# Altium footprint library ESP32.PcbLib: 23 footprints (part 1 of 2)
Each footprint in its own frame and in the unit in brackets; x right, y up, seen from the top. Pads: shape width x height; smd on the part's side, far side on the other; paste and mask are expansions set on the pad; w line width, h text height; cw(c..) or ccw(c..) is an arc to the next point about the centre after c.
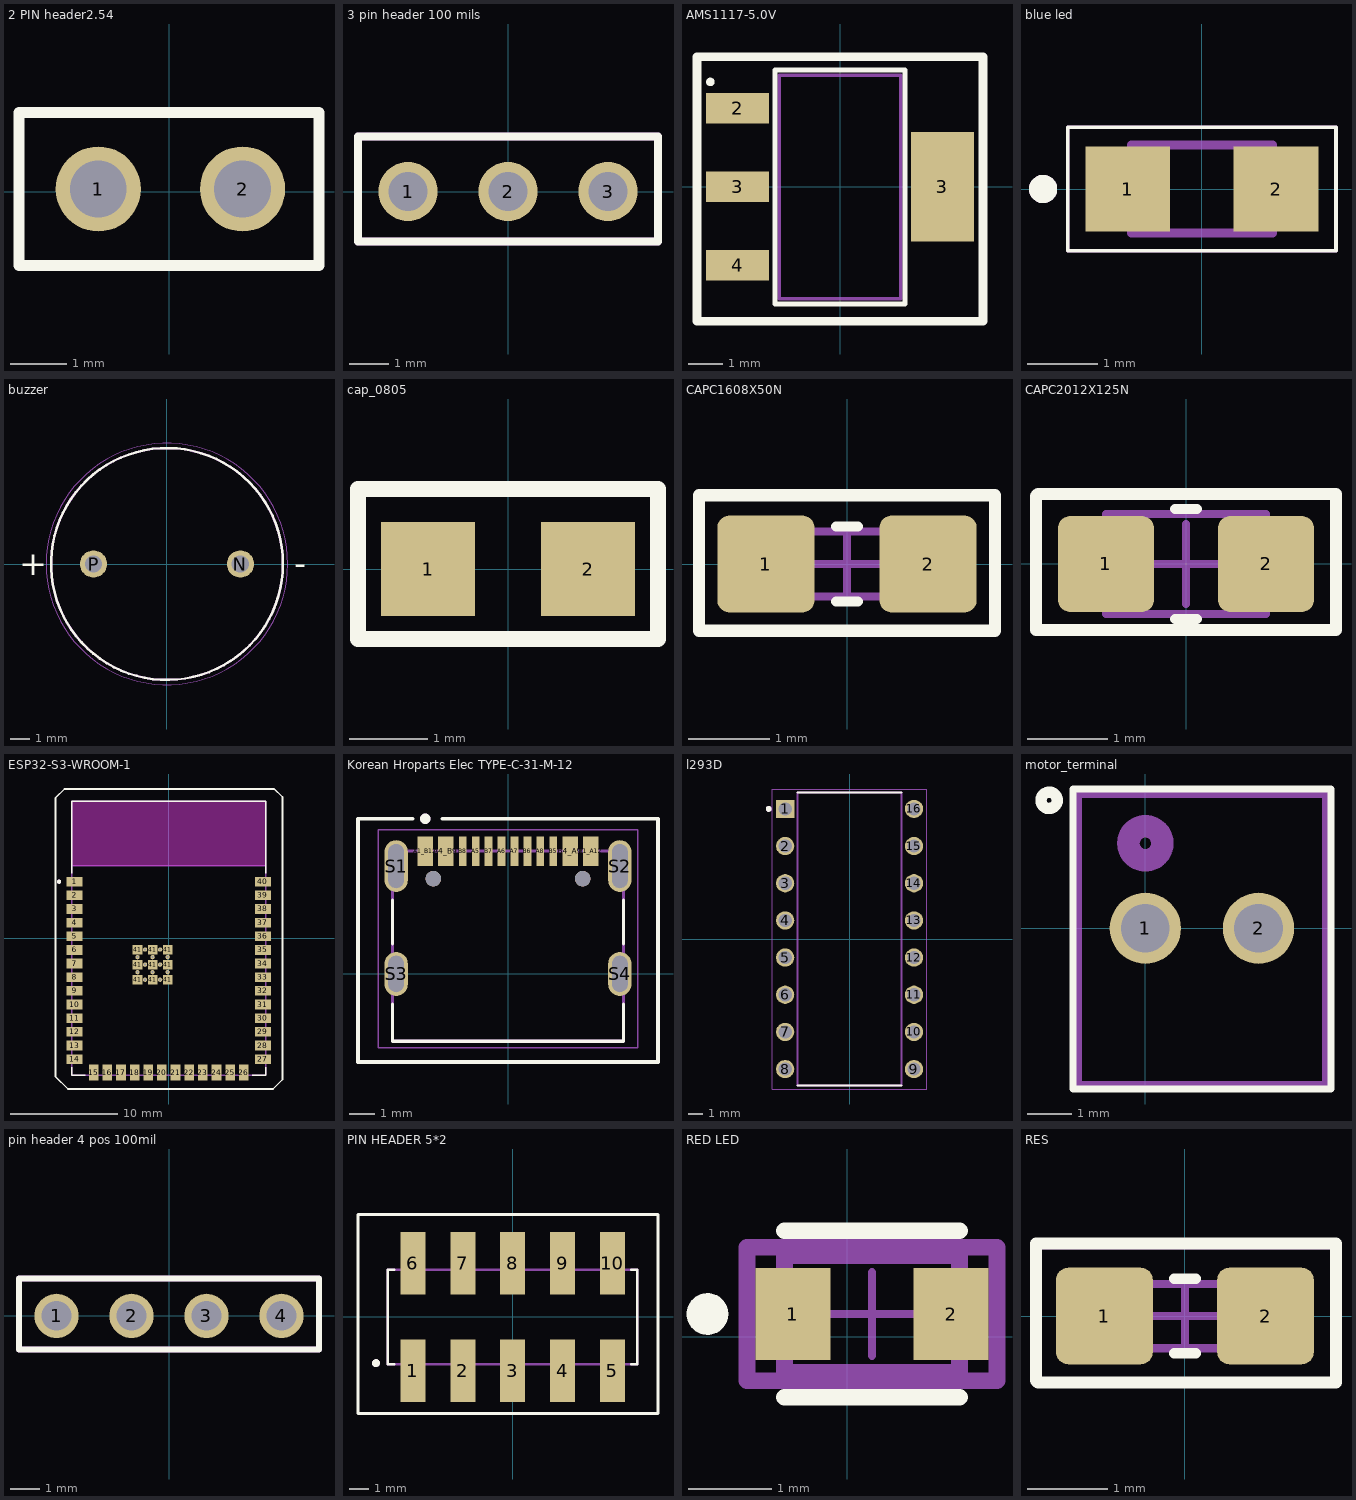
[diagram p0: the footprints below, top view; thin cyan lines are the x and y axes]

## 2 PIN header2.54 [mm]
pads (2):
  round 1.5 hole 1 mask+0.3: 1(-1.245,0.051) 2(1.295,0.051)
Top Overlay:
  lines w0.2: -2.642,-1.295 -2.642,-0.603 -2.642,0.73 -2.642,1.397 ; -2.591,-1.295 2.642,-1.295 2.642,-0.603 2.642,0.73 2.642,1.397 ; -2.591,1.397 2.616,1.397
3D body "HTSW-102-16-T-S.stp": height 10.67, standoff -7.87, extent -2.54,-1.194 2.54,1.295

## 3 pin header 100 mils [mm]
pads (3):
  round 1.5 hole 1 mask+0.3: 1(-2.54,0) 2(0,0) 3(2.54,0)
Top Overlay:
  lines w0.2: -3.81,-1.27 3.81,-1.27 3.81,1.397 -3.81,1.397 -3.81,-1.27
Mechanical 13:
  lines w0.2: -3.81,-1.27 -3.81,1.397 3.81,1.397 3.81,-1.27 -3.81,-1.27
3D body "M20-9990346--3DModel-STEP-56544.STEP": height 8.74, standoff -3, extent -3.81,-1.27 3.81,1.27

## AMS1117-5.0V [mm]
height 1.8
pads (4):
  rect 1.85x0.9 smd: 2(-3,2.3) 3(-3,0) 4(-3,-2.3)
  rect 1.85x3.2 smd: 3(3,0)
Top Overlay:
  circle w0.125: c-3.8,3.075 r0.062
  lines w0.15: -1.905,-3.429 1.905,-3.429 1.905,3.429 -1.905,3.429 -1.905,-3.429
  lines w0.254: -4.191,-3.937 -4.191,3.81 4.191,3.81 4.191,-3.937 -4.191,-3.937
Mechanical 1:
  text ".Designator" at -3.991,-0.295 h0.8
Top Assembly:
  lines w0.1: -1.778,-3.275 -1.778,3.275 1.775,3.275 1.775,-3.275 -1.778,-3.275
3D body: height 1.8, standoff 0.64, extent -1.75,-3.25 1.75,3.25

## blue led [mm]
height 0.8
pads (2):
  rect 1.2x1.2 smd: 1(-1.05,0) 2(1.05,0)
Top Overlay:
  circle w0.2: c-2.25,0 r0.1
  lines w0.05: -1.9,-0.875 1.9,-0.875 1.9,0.875 -1.9,0.875 -1.9,-0.875
Mechanical 13:
  circle w0.2: c-2.25,0 r0.1
  lines w0.127: -1,-0.625 -1,0.625 1,0.625 1,-0.625 -1,-0.625
Mechanical 15:
  lines w0.05: -1.9,-0.875 -1.9,0.875 1.9,0.875 1.9,-0.875 -1.9,-0.875
3D body "step_temp.STEP": height 0.8, standoff 0, extent -1,-0.625 1,0.625

## buzzer [mm]
pads (2):
  round 1.408 hole 0.9: N(3.8,0) P(-3.8,0)
Top Overlay:
  lines w0.127: 6,0 cw(c0,0) 6,0.024
  text "+" at -7.656,-0.571 h1.27
  text "-" at 6.593,-0.571 h1.27
Mechanical 13:
  circle w0.127: c0,0 r6
Mechanical 15:
  circle w0.05: c0,0 r6.25
3D body "step_temp.STEP": height 7, standoff -6, extent -6,-6 6,6

## cap_0805 [mm]
height 0.4
pads (2):
  rect 1.2x1.2 smd: 1(-1.016,0) 2(1.016,0)
Top Overlay:
  lines w0.2: -1.905,-0.889 -1.905,1.016 1.905,1.016 1.905,-0.889 -1.905,-0.889
Top Solder:
  lines w0.1: -1.651,-0.635 -1.651,0.635 -0.381,0.635 -0.381,-0.635 -1.651,-0.635 ; 0.381,-0.635 0.381,0.635 1.651,0.635 1.651,-0.635 0.381,-0.635
Mechanical 1:
  text ".Designator" at -1.551,-0.054 h0.3
3D body: height 0.4, standoff 0, extent 0.5,-0.625 1,0.625
3D body: height 0.4, standoff 0, extent -0.5,-0.625 0.5,0.625
3D body: height 0.4, standoff 0, extent -1,-0.625 -0.5,0.625

## CAPC1608X50N [mm] "Chip Capacitor, 2-Leads, Body 1.60x0.80mm, IPC Medium Density"
height 0.5
pads (2):
  rrect25% 1.2x1.2 smd: 1(-1,0) 2(1,0)
Top Overlay:
  lines w0.127: -0.136,-0.464 0.136,-0.464 ; -0.136,0.463 0.136,0.463
  lines w0.152: -1.825,-0.825 1.825,-0.825 1.825,0.85 -1.825,0.85 -1.825,-0.825
Top Courtyard:
  lines w0.05: -1.85,-0.85 1.85,-0.85 1.85,0.85 -1.85,0.85 -1.85,-0.85
Top Assembly:
  lines w0.1: -0.8,-0.4 0.8,-0.4 0.8,0.4 -0.8,0.4 -0.8,-0.4
Mechanical 13:
  text ".Designator" at -1.675,-0.158 h0.5
Top Component Center:
  lines w0.1: -0.4,0 0.4,0 ; 0,-0.4 0,0.4
3D body: height 0.5, standoff 0, extent 0.5,-0.4 0.8,0.4
3D body: height 0.5, standoff 0, extent -0.8,-0.4 -0.5,0.4
3D body: height 0.5, standoff 0, extent -0.5,-0.4 0.5,0.4

## CAPC2012X125N [mm] "Chip Capacitor, 2-Leads, Body 2.00x1.25mm, IPC Medium Density"
height 1.25
pads (2):
  rrect25% 1.2x1.2 smd: 1(-1,0) 2(1,0)
Top Overlay:
  lines w0.127: -0.136,-0.689 0.136,-0.689 ; -0.136,0.689 0.136,0.689
  lines w0.152: -1.875,-0.825 -1.875,0.85 -1.85,0.875 1.875,0.875 1.875,-0.825 -1.875,-0.825
Top Courtyard:
  lines w0.05: -1.85,-0.875 -1.85,0.875 1.85,0.875 1.85,-0.875 -1.85,-0.875
Top Assembly:
  lines w0.1: -1,-0.625 -1,0.625 1,0.625 1,-0.625 -1,-0.625
Mechanical 13:
  text ".Designator" at -1.675,-0.158 h0.5
Top Component Center:
  lines w0.1: -0.5,0 0.5,0 ; 0,-0.5 0,0.5
3D body: height 1.25, standoff 0, extent -0.7,-0.625 0.7,0.625
3D body: height 1.25, standoff 0, extent -1,-0.625 -0.7,0.625
3D body: height 1.25, standoff 0, extent 0.7,-0.625 1,0.625

## ESP32-S3-WROOM-1 [mm]
height 3.25
pads (61):
  rect 1.5x0.9 smd: 1(-8.75,5.26) 2(-8.75,3.99) 3(-8.75,2.72) 4(-8.75,1.45) 5(-8.75,0.18) 6(-8.75,-1.09) 7(-8.75,-2.36) 8(-8.75,-3.63) 9(-8.75,-4.9) 10(-8.75,-6.17) 11(-8.75,-7.44) 12(-8.75,-8.71) 13(-8.75,-9.98) 14(-8.75,-11.25) 27(8.75,-11.25) 28(8.75,-9.98) 29(8.75,-8.71) 30(8.75,-7.44) 31(8.75,-6.17) 32(8.75,-4.9) 33(8.75,-3.63) 34(8.75,-2.36) 35(8.75,-1.09) 36(8.75,0.18) 37(8.75,1.45) 38(8.75,2.72) 39(8.75,3.99) 40(8.75,5.26)
  rect 0.9x1.5 smd: 15(-6.985,-12.5) 16(-5.715,-12.5) 17(-4.445,-12.5) 18(-3.175,-12.5) 19(-1.905,-12.5) 20(-0.635,-12.5) 21(0.635,-12.5) 22(1.905,-12.5) 23(3.175,-12.5) 24(4.445,-12.5) 25(5.715,-12.5) 26(6.985,-12.5)
  rect 0.9x0.9 smd: 41(-2.9,-3.86) 41(-2.9,-2.46) 41(-2.9,-1.06) 41(-1.5,-3.86) 41(-1.5,-2.46) 41(-1.5,-1.06) 41(-0.1,-3.86) 41(-0.1,-2.46) 41(-0.1,-1.06)
  round 0.4 hole 0.2 mask+0: 41_10(-1.5,-1.76) 41_11(-2.9,-1.76) 41_12(-0.1,-1.76) 41_13(-2.9,-3.16) 41_14(-1.5,-3.16) 41_15(-0.1,-3.16) 41_16(-2.2,-1.06) 41_17(-0.8,-1.06) 41_18(-2.2,-2.46) 41_19(-0.8,-2.46) 41_20(-2.2,-3.86) 41_21(-0.8,-3.86)
Top Overlay:
  circle w0.2: c-10.2,5.26 r0.1
  lines w0.127: -9,-12.02 -9,-12.75 -7.755,-12.75 ; -9,6.03 -9,12.75 9,12.75 9,6.03 ; 7.755,-12.75 9,-12.75 9,-12.02
  lines w0.152: -10.525,-12.875 -9.375,-14.025 9.7,-14.025 10.575,-13.15 10.575,13.125 9.825,13.875 -9.7,13.875 -10.525,13.05 -10.525,-12.875
Keep-Out Layer:
  region: 9,6.75 -9,6.75 -9,12.75 9,12.75
  region: 9,6.75 -9,6.75 -9,12.75 9,12.75
Mechanical 13:
  circle w0.2: c-10.2,5.26 r0.1
  lines w0.127: -9,6.75 9,6.75 ; -9,6.75 -9,12.75 9,12.75 9,6.75 ; -9,6.75 -9,-12.75 9,-12.75 9,6.75
  text "ANTENNA" at -4.5,9.5 h1.27
3D body "step_temp.STEP": height 3.25, standoff 0, extent -9,-12.75 9,12.75

## Korean Hroparts Elec TYPE-C-31-M-12 [mm] "CONN RCPT Type-C 16POS SMD"
height 3.26
pads (18):
  rect 0.6x1.14 smd mask+0.05: A1_B12(-3.2,4.75) A4_B9(-2.4,4.75) B1_A12(3.2,4.75) B4_A9(2.4,4.75)
  rect 0.3x1.14 smd mask+0.05: A5(-1.25,4.75) A6(-0.25,4.75) A7(0.25,4.75) A8(1.25,4.75) B5(1.75,4.75) B6(0.75,4.75) B7(-0.75,4.75) B8(-1.75,4.75)
  oval 0.9x2 hole 0.6 slot 1.7 at 90 deg: S1(-4.325,4.17) S2(4.325,4.17)
  oval 0.9x1.7 hole 0.6 slot 1.4 at 90 deg: S3(-4.325,0) S4(4.325,0)
  round 0.6 hole 0.6 unplated: ""(-2.89,3.68) ""(2.89,3.68)
Top Overlay:
  circle w0.2: c-3.2,6 r0.1
  lines w0.127: -4.47,-1.17 -4.47,-2.6 4.47,-2.6 4.47,-1.17 ; -4.47,1.17 -4.47,2.85 ; 4.47,1.17 4.47,2.85
  lines w0.152: -3.7,6 -5.8,6 -5.8,-3.4 5.8,-3.4 5.8,6 -2.54,6
Mechanical 13:
  circle w0.2: c-3.2,6 r0.1
  lines w0.127: -4.47,-2.6 -4.47,4.75 4.47,4.75 4.47,-2.6 -4.47,-2.6
Mechanical 15:
  lines w0.05: -5.025,-2.85 5.025,-2.85 5.025,5.57 -5.025,5.57 -5.025,-2.85
3D body "step_temp.STEP": height 3.31, standoff -0.99, extent -4.47,-2.6 4.47,5.305

## l293D [mm]
height 5.1
pads (16):
  rect 1.25x1.25 / inner round 1.25 / far side rect 1.25x1.25 hole 0.9: 1(-4.4,8.89)
  round 1.25 hole 0.9: 2(-4.4,6.35) 3(-4.4,3.81) 4(-4.4,1.27) 5(-4.4,-1.27) 6(-4.4,-3.81) 7(-4.4,-6.35) 8(-4.4,-8.89) 9(4.4,-8.89) 10(4.4,-6.35) 11(4.4,-3.81) 12(4.4,-1.27) 13(4.4,1.27) 14(4.4,3.81) 15(4.4,6.35) 16(4.4,8.89)
Top Overlay:
  circle w0.2: c-5.525,8.89 r0.1
  lines w0.127: -3.55,-10 3.55,-10 ; -3.55,10 3.55,10
Mechanical 13:
  circle w0.2: c-5.525,8.89 r0.1
  lines w0.127: -3.55,-10 3.55,-10 3.55,10 -3.55,10 -3.55,-10
Mechanical 15:
  lines w0.05: -5.275,-10.25 5.275,-10.25 5.275,10.25 -5.275,10.25 -5.275,-10.25
3D body "step_temp.STEP": height 5.1, standoff -3.3, extent -4.62,-10 4.62,10

## motor_terminal [mil]
pads (2):
  round 63 hole 43: 1(0,0) 2(100,0)
Top Overlay:
  circle w10: c-85,113 r7.21
  lines w6: -64,-142 164,-142 164,123 -64,123 -64,-142
Mechanical 13:
  lines w6: -59,-138 159,-138 159,118 -59,118 -59,-138
  lines w20: -15,75 cw(c0,75) 15,75 cw(c0,75) -15,75
3D body "397730002.stp": height 394, standoff -134, extent -58,-140 160,116

## pin header 4 pos 100mil [mm]
pads (4):
  round 1.5 hole 1 mask+0.3: 1(-3.81,0) 2(-1.27,0) 3(1.27,0) 4(3.81,0)
Top Overlay:
  lines w0.2: -5.08,-1.143 -5.08,1.27 5.08,1.27 5.08,-1.143 -5.08,-1.143
Mechanical 13:
  lines w0.2: -5.08,-1.143 5.08,-1.143 5.08,1.27 -5.08,1.27 -5.08,-1.143
3D body "m20-9730446.stp": height 10, standoff -2.6, extent -5.08,-1.27 5.08,1.27

## PIN HEADER 5*2 [mm]
height 9.85
pads (10):
  rect 1.27x3.18 smd: 1(-5.08,-2.73) 2(-2.54,-2.73) 3(0,-2.73) 4(2.54,-2.73) 5(5.08,-2.73) 6(-5.08,2.73) 7(-2.54,2.73) 8(0,2.73) 9(2.54,2.73) 10(5.08,2.73)
Top Overlay:
  circle w0.2: c-6.96,-2.35 r0.1
  lines w0.127: -6.035,-2.415 -6.35,-2.415 -6.35,2.415 -6.035,2.415 ; 6.035,-2.415 6.35,-2.415 6.35,2.415 6.035,2.415
  lines w0.152: -7.875,-4.925 7.4,-4.925 7.4,5.225 -7.875,5.225 -7.875,-4.5 -7.875,-4.925
Mechanical 13:
  circle w0.2: c-6.96,-2.35 r0.1
  lines w0.127: -6.35,-2.415 -6.35,2.415 6.35,2.415 6.35,-2.415 -6.35,-2.415
3D body "step_temp.STEP": height 9.65, standoff 0, extent -6.35,-3.685 6.35,3.685

## RED LED [mm]
pads (2):
  rect 0.9x1.1 smd paste+0 mask+0: 1(-0.65,0.275) 2(1.25,0.275)
Top Overlay:
  circle w0.25: c-1.675,0.275 r0.125
  lines w0.2: -0.75,-0.725 1.35,-0.725 ; -0.75,1.275 1.35,1.275
Top 3D Body:
  lines w0.2: -0.75,-0.425 1.35,-0.425 1.35,0.975 -0.75,0.975 -0.75,-0.425
Board:
  lines w0.2: -1.2,-0.525 1.8,-0.525 1.8,1.075 -1.2,1.075 -1.2,-0.525
Top Assembly:
  lines w0.2: -1.2,-0.525 1.8,-0.525 1.8,1.075 -1.2,1.075 -1.2,-0.525
Top Component Center:
  lines w0.1: -0.2,0.275 0.8,0.275 ; 0.3,-0.225 0.3,0.775
3D body "Diode_Lumex_SML-LXT0805IW-TR_eec.STEP": height 0.25, standoff 0, extent -1.2,-0.525 1.8,1.075
3D body "Diode_Lumex_SML-LXT0805IW-TR_eec.STEP": height 0.25, standoff 0, extent -1.2,-0.525 1.8,1.075

## RES [mm] "Chip Resistor, 2-Leads, Body 1.60x0.80mm, IPC Medium Density"
height 0.45
pads (2):
  rrect25% 1.2x1.2 smd: 1(-1,0) 2(1,0)
Top Overlay:
  lines w0.127: -0.136,-0.464 0.136,-0.464 ; -0.136,0.463 0.136,0.463
  lines w0.152: -1.85,-0.8 -1.85,0.9 1.875,0.9 1.875,-0.825 -1.825,-0.825 -1.85,-0.8
Top Courtyard:
  lines w0.05: -1.85,-0.85 1.85,-0.85 1.85,0.85 -1.85,0.85 -1.85,-0.85
Top Assembly:
  lines w0.1: -0.8,-0.4 0.8,-0.4 0.8,0.4 -0.8,0.4 -0.8,-0.4
Mechanical 13:
  text ".Designator" at -1.75,-0.133 h0.5
Top Component Center:
  lines w0.1: -0.4,0 0.4,0 ; 0,-0.4 0,0.4
3D body: height 0.45, standoff 0, extent 0.55,-0.4 0.8,0.4
3D body: height 0.45, standoff 0, extent -0.8,-0.4 -0.55,0.4
3D body: height 0.45, standoff 0, extent -0.55,-0.4 0.55,0.4